# Altium footprint library Jumper.PcbLib: 33 footprints (part 1 of 3)
Each footprint in its own frame and in the unit in brackets; x right, y up, seen from the top. Pads: shape width x height; smd on the part's side, far side on the other; paste and mask are expansions set on the pad; w line width, h text height; cw(c..) or ccw(c..) is an arc to the next point about the centre after c.
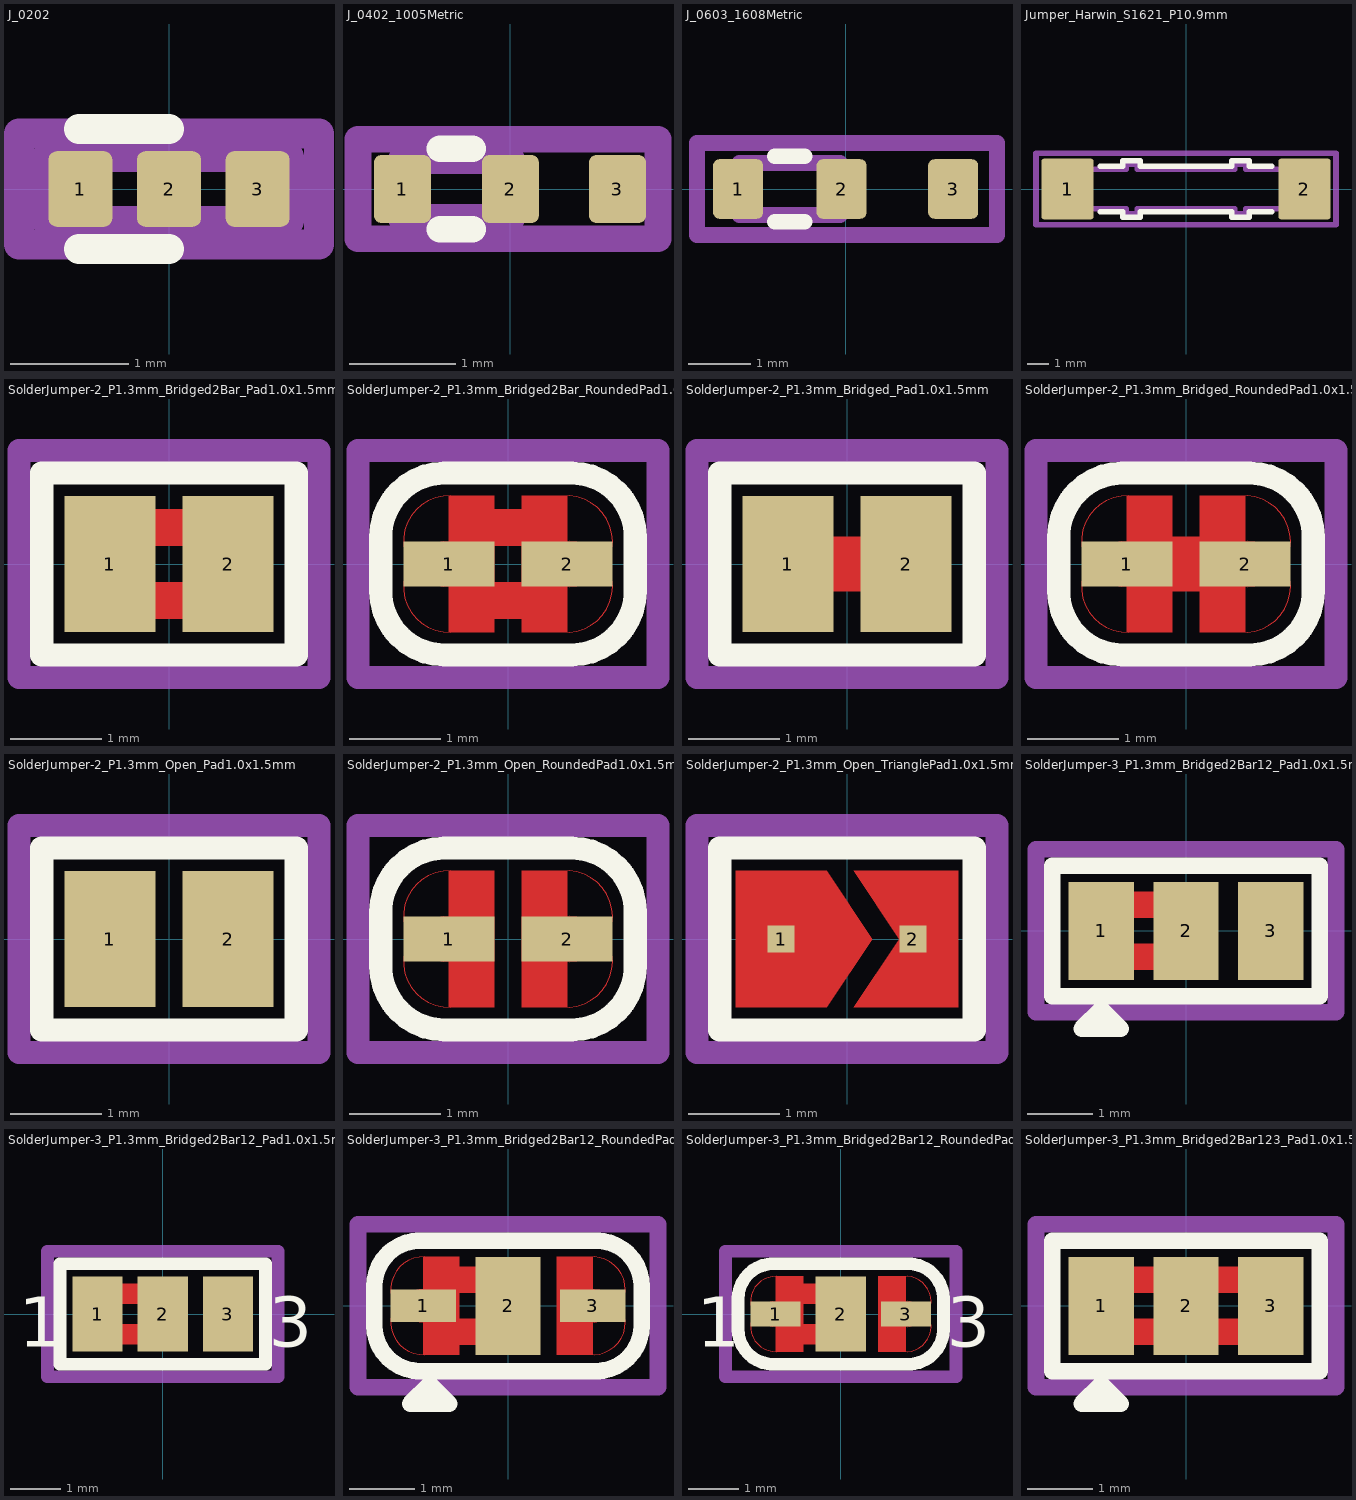
[diagram p0: the footprints below, top view; thin cyan lines are the x and y axes]

## J_0202 [mm] "R_0402_1005Metric"
pads (3):
  rrect25% 0.54x0.64 smd: 1(-0.75,0) 2(0,0) 3(0.75,0)
F.SilkS:
  lines w0.254: -0.762,-0.508 0,-0.508 ; -0.762,0.508 0,0.508
Top Component Center:
  lines w0.127: -0.127,0 0.127,0 ; 0,-0.127 0,0.127
Top Assembly:
  lines w0.254: -1.033,-0.27 -1.033,0.27 1.016,0.27 1.016,-0.27 -1.033,-0.27
Top Courtyard:
  lines w0.254: -1.27,-0.47 -1.27,0.47 1.27,0.47 1.27,-0.47 -1.27,-0.47
Top Designator:
  text ".Designator" at -1.124,-0.113 h0.5
3D body "R_0402_1005Metric.step": height 0.35, standoff 0, extent -0.881,-0.25 0.119,0.25

## J_0402_1005Metric [mm] "R_0402_1005Metric"
pads (3):
  rrect25% 0.54x0.64 smd: 1(-1.018,0) 2(0.002,0) 3(1.014,0)
F.SilkS:
  lines w0.254: -0.662,-0.38 -0.354,-0.38 ; -0.662,0.38 -0.354,0.38
Top Component Center:
  lines w0.127: -0.127,0 0.127,0 ; 0,-0.127 0,0.127
Top Assembly:
  lines w0.254: -1.033,-0.27 -1.033,0.27 0.017,0.27 0.017,-0.27 -1.033,-0.27
Top Courtyard:
  lines w0.254: -1.438,-0.47 -1.438,0.47 1.397,0.47 1.397,-0.47 -1.438,-0.47
Top Designator:
  text ".Designator" at -1.124,-0.113 h0.5
3D body "R_0402_1005Metric.step": height 0.35, standoff 0, extent -1.008,-0.25 -0.008,0.25

## J_0603_1608Metric [mm] "R_0603_1608Metric"
pads (3):
  rrect25% 0.8x0.95 smd: 1(-1.714,0) 2(-0.064,0) 3(1.714,0)
F.SilkS:
  lines w0.254: -1.126,-0.523 -0.652,-0.523 ; -1.126,0.523 -0.652,0.523
Top Component Center:
  lines w0.127: -0.127,0 0.127,0 ; 0,-0.127 0,0.127
Top Assembly:
  lines w0.254: -1.689,-0.413 -1.689,0.413 -0.089,0.413 -0.089,-0.413 -1.689,-0.413
Top Courtyard:
  lines w0.254: -2.369,-0.73 -2.369,0.73 2.413,0.73 2.413,-0.73 -2.369,-0.73
Top Designator:
  text ".Designator" at -1.346,-0.135 h0.6
3D body "R_0603_1608Metric.step": height 0.45, standoff 0, extent -1.689,-0.4 -0.089,0.4

## Jumper_Harwin_S1621_P10.9mm [mm]
pads (2):
  rrect10% 2.4x2.8 smd: 1(-5.45,0) 2(5.45,0)
F.SilkS:
  lines w0.254: -3.95,-1.05 -2.9,-1.05 -2.9,-1.3 -2.1,-1.3 -2.1,-1.05 2.1,-1.05 2.1,-1.3 2.9,-1.3 2.9,-1.05 3.95,-1.05 ; -3.95,1.05 -2.9,1.05 -2.9,1.3 -2.1,1.3 -2.1,1.05 2.1,1.05 2.1,1.3 2.9,1.3 2.9,1.05 3.95,1.05
Top Assembly:
  lines w0.254: -6.15,-0.9 -6.15,0.9 -2.75,0.9 -2.75,1.15 -2.25,1.15 -2.25,0.9 2.25,0.9 2.25,1.15 2.75,1.15 2.75,0.9 6.15,0.9 6.15,-0.9 2.75,-0.9 2.75,-1.15 2.25,-1.15 2.25,-0.9 -2.25,-0.9 -2.25,-1.15 -2.75,-1.15 -2.75,-0.9 -6.15,-0.9
  text "'.Designator'" at -4.047,-0.84 h1
Top Courtyard:
  lines w0.254: -6.9,-1.65 -6.9,1.65 6.9,1.65 6.9,-1.65 -6.9,-1.65
Top Designator:
  text ".Designator" at -7.618,-0.508 h1.52

## SolderJumper-2_P1.3mm_Bridged2Bar_Pad1.0x1.5mm [mm]
pads (2):
  rect 1x1.5 smd: 1(-0.65,0) 2(0.65,0)
F.Cu:
  region: 0.25,0.2 -0.25,0.2 -0.25,0.6 0.25,0.6
  region: 0.25,-0.6 -0.25,-0.6 -0.25,-0.2 0.25,-0.2
F.SilkS:
  lines w0.254: -1.4,-1 -1.4,1 1.4,1 1.4,-1 -1.4,-1
F.Mask:
  lines w0.254: -0.15,-0.75 -0.15,0.75 0.15,0.75 0.15,-0.75 -0.15,-0.75
Top Courtyard:
  lines w0.254: -1.65,-1.25 -1.65,1.25 1.65,1.25 1.65,-1.25 -1.65,-1.25
Top Designator:
  text ".Designator" at -7.618,-0.508 h1.52

## SolderJumper-2_P1.3mm_Bridged2Bar_RoundedPad1.0x1.5mm [mm]
pads (2):
  rect 1x0.5 smd: 1(-0.65,0) 2(0.65,0)
F.Cu:
  circle w0: c-0.65,-0.25 r0.5
  circle w0: c-0.65,0.25 r0.5
  circle w0: c0.65,-0.25 r0.5
  circle w0: c0.65,0.25 r0.5
  region: 0.25,0.2 -0.25,0.2 -0.25,0.6 0.25,0.6
  region: 0.25,-0.6 -0.25,-0.6 -0.25,-0.2 0.25,-0.2
  region: -0.15,-0.75 -0.65,-0.75 -0.65,0.75 -0.15,0.75
  region: 0.65,-0.75 0.15,-0.75 0.15,0.75 0.65,0.75
F.SilkS:
  lines w0.254: -1.4,-0.3 ccw(c-0.7,-0.3) -0.7,-1 0.7,-1 ccw(c0.7,-0.3) 1.4,-0.3 1.4,0.3 ccw(c0.7,0.3) 0.7,1 -0.7,1 ccw(c-0.7,0.3) -1.4,0.3 -1.4,-0.3
F.Mask:
  circle w0: c-0.65,-0.25 r0.5
  circle w0: c-0.65,0.25 r0.5
  circle w0: c0.65,-0.25 r0.5
  circle w0: c0.65,0.25 r0.5
  region: -0.15,-0.75 -0.65,-0.75 -0.65,0.75 -0.15,0.75
  region: 0.65,-0.75 0.15,-0.75 0.15,0.75 0.65,0.75
  lines w0.254: -0.15,-0.75 -0.15,0.75 0.15,0.75 0.15,-0.75 -0.15,-0.75
Top Courtyard:
  lines w0.254: -1.65,-1.25 -1.65,1.25 1.65,1.25 1.65,-1.25 -1.65,-1.25
Top Designator:
  text ".Designator" at -7.618,-0.508 h1.52

## SolderJumper-2_P1.3mm_Bridged_Pad1.0x1.5mm [mm]
pads (2):
  rect 1x1.5 smd: 1(-0.65,0) 2(0.65,0)
F.Cu:
  region: 0.25,-0.3 -0.25,-0.3 -0.25,0.3 0.25,0.3
F.SilkS:
  lines w0.254: -1.4,-1 -1.4,1 1.4,1 1.4,-1 -1.4,-1
F.Mask:
  lines w0.254: -0.15,-0.75 -0.15,0.75 0.15,0.75 0.15,-0.75 -0.15,-0.75
Top Courtyard:
  lines w0.254: -1.65,-1.25 -1.65,1.25 1.65,1.25 1.65,-1.25 -1.65,-1.25
Top Designator:
  text ".Designator" at -7.618,-0.508 h1.52

## SolderJumper-2_P1.3mm_Bridged_RoundedPad1.0x1.5mm [mm]
pads (2):
  rect 1x0.5 smd: 1(-0.65,0) 2(0.65,0)
F.Cu:
  circle w0: c-0.65,-0.25 r0.5
  circle w0: c-0.65,0.25 r0.5
  circle w0: c0.65,-0.25 r0.5
  circle w0: c0.65,0.25 r0.5
  region: 0.25,-0.3 -0.25,-0.3 -0.25,0.3 0.25,0.3
  region: -0.15,-0.75 -0.65,-0.75 -0.65,0.75 -0.15,0.75
  region: 0.65,-0.75 0.15,-0.75 0.15,0.75 0.65,0.75
F.SilkS:
  lines w0.254: -1.4,-0.3 ccw(c-0.7,-0.3) -0.7,-1 0.7,-1 ccw(c0.7,-0.3) 1.4,-0.3 1.4,0.3 ccw(c0.7,0.3) 0.7,1 -0.7,1 ccw(c-0.7,0.3) -1.4,0.3 -1.4,-0.3
F.Mask:
  circle w0: c-0.65,-0.25 r0.5
  circle w0: c-0.65,0.25 r0.5
  circle w0: c0.65,-0.25 r0.5
  circle w0: c0.65,0.25 r0.5
  region: -0.15,-0.75 -0.65,-0.75 -0.65,0.75 -0.15,0.75
  region: 0.65,-0.75 0.15,-0.75 0.15,0.75 0.65,0.75
  lines w0.254: -0.15,-0.75 -0.15,0.75 0.15,0.75 0.15,-0.75 -0.15,-0.75
Top Courtyard:
  lines w0.254: -1.65,-1.25 -1.65,1.25 1.65,1.25 1.65,-1.25 -1.65,-1.25
Top Designator:
  text ".Designator" at -7.618,-0.508 h1.52

## SolderJumper-2_P1.3mm_Open_Pad1.0x1.5mm [mm]
pads (2):
  rect 1x1.5 smd: 1(-0.65,0) 2(0.65,0)
F.SilkS:
  lines w0.254: -1.4,-1 -1.4,1 1.4,1 1.4,-1 -1.4,-1
F.Mask:
  lines w0.254: -0.15,-0.75 -0.15,0.75 0.15,0.75 0.15,-0.75 -0.15,-0.75
Top Courtyard:
  lines w0.254: -1.65,-1.25 -1.65,1.25 1.65,1.25 1.65,-1.25 -1.65,-1.25
Top Designator:
  text ".Designator" at -7.618,-0.508 h1.52

## SolderJumper-2_P1.3mm_Open_RoundedPad1.0x1.5mm [mm]
pads (2):
  rect 1x0.5 smd: 1(-0.65,0) 2(0.65,0)
F.Cu:
  circle w0: c-0.65,-0.25 r0.5
  circle w0: c-0.65,0.25 r0.5
  circle w0: c0.65,-0.25 r0.5
  circle w0: c0.65,0.25 r0.5
  region: -0.15,-0.75 -0.65,-0.75 -0.65,0.75 -0.15,0.75
  region: 0.65,-0.75 0.15,-0.75 0.15,0.75 0.65,0.75
F.SilkS:
  lines w0.254: -1.4,-0.3 ccw(c-0.7,-0.3) -0.7,-1 0.7,-1 ccw(c0.7,-0.3) 1.4,-0.3 1.4,0.3 ccw(c0.7,0.3) 0.7,1 -0.7,1 ccw(c-0.7,0.3) -1.4,0.3 -1.4,-0.3
F.Mask:
  circle w0: c-0.65,-0.25 r0.5
  circle w0: c-0.65,0.25 r0.5
  circle w0: c0.65,-0.25 r0.5
  circle w0: c0.65,0.25 r0.5
  region: -0.15,-0.75 -0.65,-0.75 -0.65,0.75 -0.15,0.75
  region: 0.65,-0.75 0.15,-0.75 0.15,0.75 0.65,0.75
  lines w0.254: -0.15,-0.75 -0.15,0.75 0.15,0.75 0.15,-0.75 -0.15,-0.75
Top Courtyard:
  lines w0.254: -1.65,-1.25 -1.65,1.25 1.65,1.25 1.65,-1.25 -1.65,-1.25
Top Designator:
  text ".Designator" at -7.618,-0.508 h1.52

## SolderJumper-2_P1.3mm_Open_TrianglePad1.0x1.5mm [mm]
pads (2):
  rect 0.3x0.3 smd: 1(-0.725,0) 2(0.725,0)
F.Cu:
  region: 0.275,0 -0.225,-0.75 -1.225,-0.75 -1.225,0.75 -0.225,0.75
  region: 1.225,-0.75 0.075,-0.75 0.575,0 0.075,0.75 1.225,0.75
F.SilkS:
  lines w0.254: -1.4,-1 -1.4,1 1.4,1 1.4,-1 -1.4,-1
F.Mask:
  region: 0.275,0 -0.225,-0.75 -1.225,-0.75 -1.225,0.75 -0.225,0.75
  region: 1.225,-0.75 0.075,-0.75 0.575,0 0.075,0.75 1.225,0.75
  lines w0.254: -1.225,-0.75 -1.225,0.75 1.225,0.75 1.225,-0.75 -1.225,-0.75
Top Courtyard:
  lines w0.254: -1.65,-1.25 -1.65,1.25 1.65,1.25 1.65,-1.25 -1.65,-1.25
Top Designator:
  text ".Designator" at -7.618,-0.508 h1.52

## SolderJumper-3_P1.3mm_Bridged2Bar12_Pad1.0x1.5mm [mm]
pads (3):
  rect 1x1.5 smd: 1(-1.3,0) 2(0,0) 3(1.3,0)
F.Cu:
  region: -0.4,0.2 -0.9,0.2 -0.9,0.6 -0.4,0.6
  region: -0.4,-0.6 -0.9,-0.6 -0.9,-0.2 -0.4,-0.2
F.SilkS:
  lines w0.254: -2.05,-1 -2.05,1 2.05,1 2.05,-1 -2.05,-1 ; -1.6,-1.5 -1,-1.5 -1.3,-1.2 -1.6,-1.5
F.Mask:
  lines w0.254: -0.8,-0.75 -0.8,0.75 0.8,0.75 0.8,-0.75 -0.8,-0.75
Top Courtyard:
  lines w0.254: -2.3,-1.25 -2.3,1.25 2.3,1.25 2.3,-1.25 -2.3,-1.25
Top Designator:
  text ".Designator" at -7.618,-0.633 h1.52

## SolderJumper-3_P1.3mm_Bridged2Bar12_Pad1.0x1.5mm_NumberLabels [mm]
pads (3):
  rect 1x1.5 smd: 1(-1.3,0) 2(0,0) 3(1.3,0)
F.Cu:
  region: -0.4,0.2 -0.9,0.2 -0.9,0.6 -0.4,0.6
  region: -0.4,-0.6 -0.9,-0.6 -0.9,-0.2 -0.4,-0.2
F.SilkS:
  lines w0.254: -2.05,-1 -2.05,1 2.05,1 2.05,-1 -2.05,-1
  text "1" at -2.869,-0.65 h1
  text "3" at 2.117,-0.65 h1
F.Mask:
  lines w0.254: -0.8,-0.75 -0.8,0.75 0.8,0.75 0.8,-0.75 -0.8,-0.75
Top Courtyard:
  lines w0.254: -2.3,-1.25 -2.3,1.25 2.3,1.25 2.3,-1.25 -2.3,-1.25
Top Designator:
  text ".Designator" at -7.66,-0.508 h1.52

## SolderJumper-3_P1.3mm_Bridged2Bar12_RoundedPad1.0x1.5mm [mm]
pads (3):
  rect 1x0.5 smd: 1(-1.3,0) 3(1.3,0)
  rect 1x1.5 smd: 2(0,0)
F.Cu:
  circle w0: c-1.3,-0.25 r0.5
  circle w0: c-1.3,0.25 r0.5
  circle w0: c1.3,-0.25 r0.5
  circle w0: c1.3,0.25 r0.5
  region: -0.4,0.2 -0.9,0.2 -0.9,0.6 -0.4,0.6
  region: -0.4,-0.6 -0.9,-0.6 -0.9,-0.2 -0.4,-0.2
  region: -0.75,-0.75 -1.3,-0.75 -1.3,0.75 -0.75,0.75
  region: 1.3,-0.75 0.75,-0.75 0.75,0.75 1.3,0.75
F.SilkS:
  lines w0.254: -1.4,-1 1.4,-1 ; -1.4,1 1.4,1 ; -1.35,-1 cw(c-1.35,-0.3) -2.05,-0.3 -2.05,0.3 cw(c-1.35,0.3) -1.35,1 ; 1.35,-1 ccw(c1.35,-0.3) 2.05,-0.3 2.05,0.3 ccw(c1.35,0.3) 1.35,1 ; -1.5,-1.5 -0.9,-1.5 -1.2,-1.2 -1.5,-1.5
F.Mask:
  circle w0: c-1.3,-0.25 r0.5
  circle w0: c-1.3,0.25 r0.5
  circle w0: c1.3,-0.25 r0.5
  circle w0: c1.3,0.25 r0.5
  region: -0.75,-0.75 -1.3,-0.75 -1.3,0.75 -0.75,0.75
  region: 1.3,-0.75 0.75,-0.75 0.75,0.75 1.3,0.75
  lines w0.254: -0.75,-0.75 -0.75,0.75 0.75,0.75 0.75,-0.75 -0.75,-0.75
Top Courtyard:
  lines w0.254: -2.3,-1.25 -2.3,1.25 2.3,1.25 2.3,-1.25 -2.3,-1.25
Top Designator:
  text ".Designator" at -7.618,-0.633 h1.52

## SolderJumper-3_P1.3mm_Bridged2Bar12_RoundedPad1.0x1.5mm_NumberLabels [mm]
pads (3):
  rect 1x0.5 smd: 1(-1.3,0) 3(1.3,0)
  rect 1x1.5 smd: 2(0,0)
F.Cu:
  circle w0: c-1.3,-0.25 r0.5
  circle w0: c-1.3,0.25 r0.5
  circle w0: c1.3,-0.25 r0.5
  circle w0: c1.3,0.25 r0.5
  region: -0.4,0.2 -0.9,0.2 -0.9,0.6 -0.4,0.6
  region: -0.4,-0.6 -0.9,-0.6 -0.9,-0.2 -0.4,-0.2
  region: -0.75,-0.75 -1.3,-0.75 -1.3,0.75 -0.75,0.75
  region: 1.3,-0.75 0.75,-0.75 0.75,0.75 1.3,0.75
F.SilkS:
  lines w0.254: -1.4,-1 1.4,-1 ; -1.4,1 1.4,1 ; -1.35,-1 cw(c-1.35,-0.3) -2.05,-0.3 -2.05,0.3 cw(c-1.35,0.3) -1.35,1 ; 1.35,-1 ccw(c1.35,-0.3) 2.05,-0.3 2.05,0.3 ccw(c1.35,0.3) 1.35,1
  text "3" at 2.117,-0.65 h1
  text "1" at -2.869,-0.65 h1
F.Mask:
  circle w0: c-1.3,-0.25 r0.5
  circle w0: c-1.3,0.25 r0.5
  circle w0: c1.3,-0.25 r0.5
  circle w0: c1.3,0.25 r0.5
  region: -0.75,-0.75 -1.3,-0.75 -1.3,0.75 -0.75,0.75
  region: 1.3,-0.75 0.75,-0.75 0.75,0.75 1.3,0.75
  lines w0.254: -0.75,-0.75 -0.75,0.75 0.75,0.75 0.75,-0.75 -0.75,-0.75
Top Courtyard:
  lines w0.254: -2.3,-1.25 -2.3,1.25 2.3,1.25 2.3,-1.25 -2.3,-1.25
Top Designator:
  text ".Designator" at -7.66,-0.508 h1.52

## SolderJumper-3_P1.3mm_Bridged2Bar123_Pad1.0x1.5mm [mm]
pads (3):
  rect 1x1.5 smd: 1(-1.3,0) 2(0,0) 3(1.3,0)
F.Cu:
  region: -0.4,0.2 -0.9,0.2 -0.9,0.6 -0.4,0.6
  region: -0.4,-0.6 -0.9,-0.6 -0.9,-0.2 -0.4,-0.2
  region: 0.9,0.2 0.4,0.2 0.4,0.6 0.9,0.6
  region: 0.9,-0.6 0.4,-0.6 0.4,-0.2 0.9,-0.2
F.SilkS:
  lines w0.254: -2.05,-1 -2.05,1 2.05,1 2.05,-1 -2.05,-1 ; -1.6,-1.5 -1,-1.5 -1.3,-1.2 -1.6,-1.5
F.Mask:
  lines w0.254: -0.8,-0.75 -0.8,0.75 0.8,0.75 0.8,-0.75 -0.8,-0.75
Top Courtyard:
  lines w0.254: -2.3,-1.25 -2.3,1.25 2.3,1.25 2.3,-1.25 -2.3,-1.25
Top Designator:
  text ".Designator" at -7.618,-0.633 h1.52